# EAGLE library part STM32WB55CX (library st)
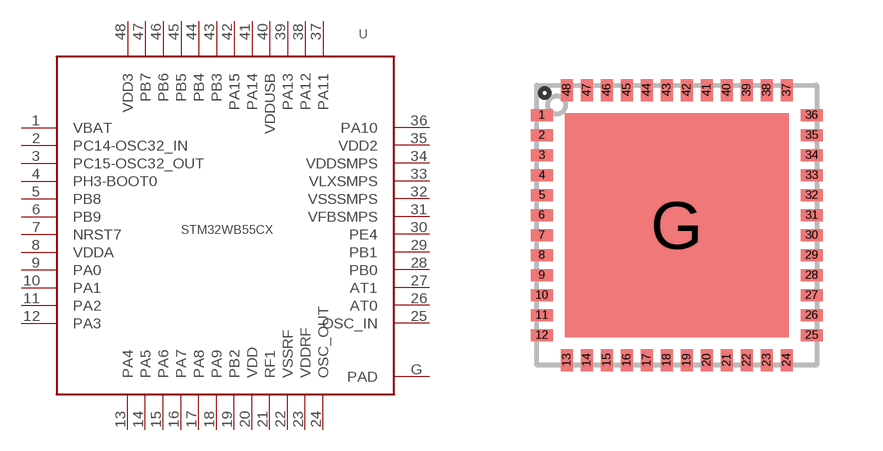
[diagram p1: symbol with the pads of UFQFPN48; footprint UFQFPN48]

Designator prefix U

## STM32WB55CX  [UFQFPN48]
1  VBAT  pwr
2  PC14-OSC32_IN
3  PC15-OSC32_OUT
4  PH3-BOOT0
5  PB8
6  PB9
7  NRST7
8  VDDA
9  PA0
10  PA1
11  PA2
12  PA3
13  PA4
14  PA5
15  PA6
16  PA7
17  PA8
18  PA9
19  PB2
20  VDD  pwr
21  RF1
22  VSSRF  pwr
23  VDDRF  pwr
24  OSC_OUT
25  OSC_IN
26  AT0
27  AT1
28  PB0
29  PB1
30  PE4
31  VFBSMPS
32  VSSSMPS
33  VLXSMPS
34  VDDSMPS
35  VDD2  pwr
36  PA10
37  PA11
38  PA12
39  PA13
40  VDDUSB  pwr
41  PA14
42  PA15
43  PB3
44  PB4
45  PB5
46  PB6
47  PB7
48  VDD3  pwr
G  PAD  pwr

## Footprint UFQFPN48 (pad centres in mm)
smd 0.55 x 0.3: 1 -3.375,2.75; 2 -3.375,2.25; 3 -3.375,1.75; 4 -3.375,1.25; 5 -3.375,0.75; 6 -3.375,0.25; 7 -3.375,-0.25; 8 -3.375,-0.75; 9 -3.375,-1.25; 10 -3.375,-1.75; 11 -3.375,-2.25; 12 -3.375,-2.75; 25 3.375,-2.75; 26 3.375,-2.25; 27 3.375,-1.75; 28 3.375,-1.25; 29 3.375,-0.75; 30 3.375,-0.25; 31 3.375,0.25; 32 3.375,0.75; 33 3.375,1.25; 34 3.375,1.75; 35 3.375,2.25; 36 3.375,2.75
smd 0.3 x 0.55: 13 -2.75,-3.375; 14 -2.25,-3.375; 15 -1.75,-3.375; 16 -1.25,-3.375; 17 -0.75,-3.375; 18 -0.25,-3.375; 19 0.25,-3.375; 20 0.75,-3.375; 21 1.25,-3.375; 22 1.75,-3.375; 23 2.25,-3.375; 24 2.75,-3.375; 37 2.75,3.375; 38 2.25,3.375; 39 1.75,3.375; 40 1.25,3.375; 41 0.75,3.375; 42 0.25,3.375; 43 -0.25,3.375; 44 -0.75,3.375; 45 -1.25,3.375; 46 -1.75,3.375; 47 -2.25,3.375; 48 -2.75,3.375
smd 5.6 x 5.6: G 0,0